# Altium schematic symbol library L.SchLib: 15 symbols
Pins are listed as number, name and electrical type; pins without a type are passive.

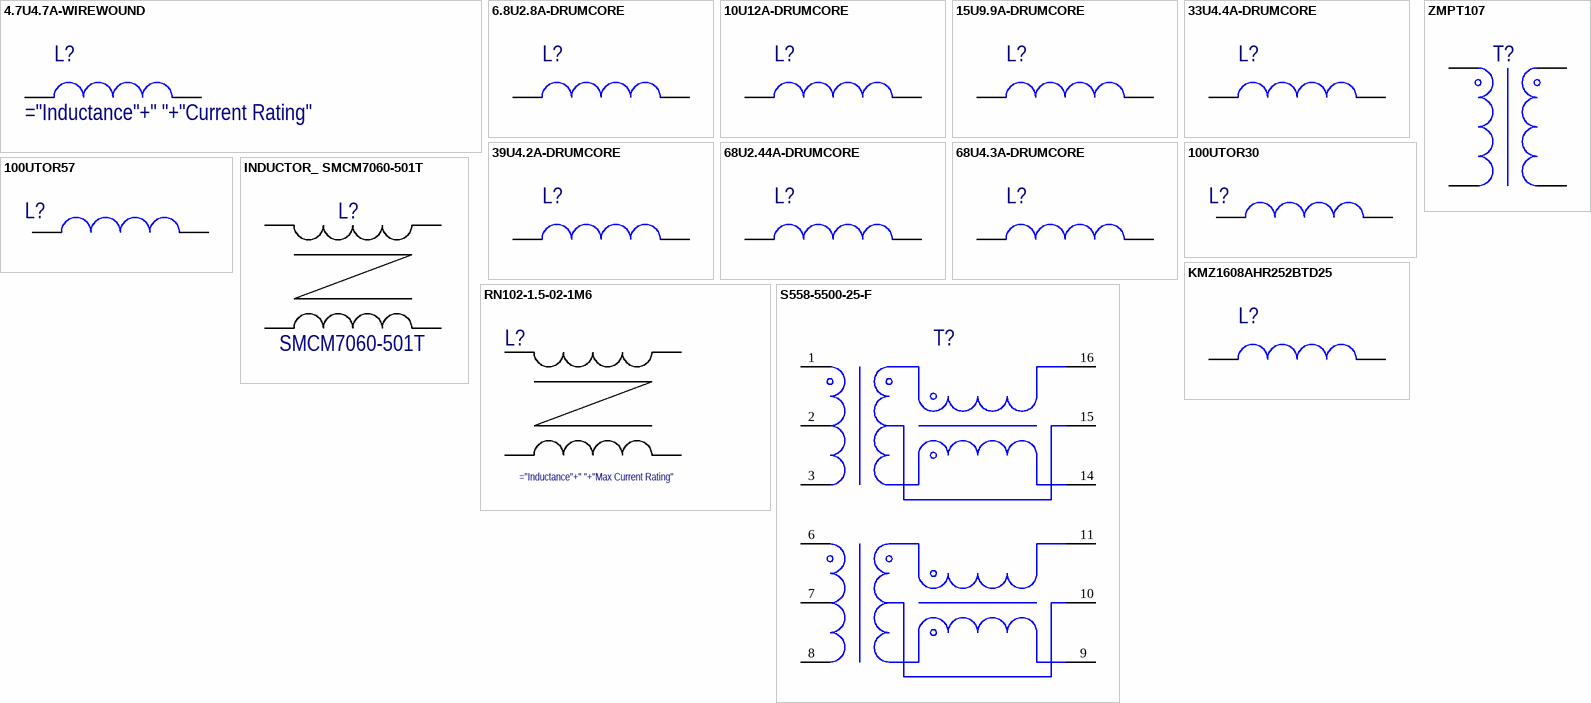
[diagram p0: symbols 4.7U4.7A-WIREWOUND to ZMPT107]

## 4.7U4.7A-WIREWOUND
designator L?
FIXED IND 4.7UH 4.5A 19 MOHM SMD; Manufacturer: Bourns Inc.; Manufacturer Part Number: SDR1005-4R7ML; DC Resistance (DCR): 19mR; Inductance Tolerance: 20%; SMD: 1; Current Rating: 4.5A; DC Current: 4.5A; Height: 5mm; Inductance: 4.7uH; Max DC Current: 4.5A; Max Operating Temperature: 125°C; Min Operating Temperature: -40°C
footprint INDP_SDR1005-4R7ML (Precision Wire Wound Inductor, 2-Leads, Body 12,70x10,00mm, IPC Low Density)
pins: 1, 2

## 6.8U2.8A-DRUMCORE
designator L?  (value not drawn)
FIXED IND 6.8UH 2.8A 47.3 MOHM; Manufacturer: Bourns; Manufacturer Part Number: SRN6045-6R8Y; SMD: 1
footprint INDP_SRN6045-6R8Y (Precision Wire Wound Inductor, 2-Leads, Body 6,00x6,00mm, IPC Low Density)
pins: 1, 2

## 10U12A-DRUMCORE
designator L?  (value not drawn)
FIXED IND 10UH 12A 105 MOHM; Manufacturer: Coilcraft; Manufacturer Part Number: MSS1210-103ME; SMD: 1
footprint INDP120120X102M (Precision Wire Wound Inductor, 2-Leads, Body 12,00x12,00mm, IPC Low Density)
pins: 1, 2

## 15U9.9A-DRUMCORE
designator L?  (value not drawn)
FIXED IND 15UH 9.9A 105 MOHM; Manufacturer: Coilcraft; Manufacturer Part Number: MSS1210-153ME; SMD: 1
footprint INDP120120X102M (Precision Wire Wound Inductor, 2-Leads, Body 12,00x12,00mm, IPC Low Density)
pins: 1, 2

## 33U4.4A-DRUMCORE
designator L?  (value not drawn)
FIXED IND 33UH 4.2A 52 MOHM; Manufacturer: Bourns; Manufacturer Part Number: SRR1210-330M; SMD: 1
footprint INDP120120X102M (Precision Wire Wound Inductor, 2-Leads, Body 12,00x12,00mm, IPC Low Density)
pins: 1, 2

## 39U4.2A-DRUMCORE
designator L?  (value not drawn)
FIXED IND 39UH 4.2A 66 MOHM; Manufacturer: Bourns; Manufacturer Part Number: SRR1210-390M; SMD: 1
footprint INDP120120X102M (Precision Wire Wound Inductor, 2-Leads, Body 12,00x12,00mm, IPC Low Density)
pins: 1, 2

## 68U2.44A-DRUMCORE
designator L?  (value not drawn)
FIXED IND 68UH 2.44A 105 MOHM; Manufacturer: Eaton - Electronics Division; Manufacturer Part Number: DR127-680-R; SMD: 1
footprint INDP120120X102M (Precision Wire Wound Inductor, 2-Leads, Body 12,00x12,00mm, IPC Low Density)
pins: 1, 2

## 68U4.3A-DRUMCORE
designator L?  (value not drawn)
FIXED IND 68UH 4.3A 84 MOHM; Manufacturer: Coilcraft; Manufacturer Part Number: MSS1210-683MEB; SMD: 1
footprint INDP120120X102M (Precision Wire Wound Inductor, 2-Leads, Body 12,00x12,00mm, IPC Low Density)
pins: 1, 2

## 100UTOR30
designator L?  (value not drawn)
INDUCTOR, TOROID, 100UH
footprint INDTOR30
pins: 1, 2

## 100UTOR57
designator L?  (value not drawn)
INDUCTOR, TOROID, 100UH; Supplier 1: Digi-Key; Supplier Part Number 1: 513-1720-ND
footprint INDTOR57
pins: 1, 2

## INDUCTOR_ SMCM7060-501T
designator L?, comment SMCM7060-501T
COMMON MODE CHOCKE SMD 500 7x6mm 450Ohm@100MHz, 5A Rated current; Manufacturer: SXN(Shun Xiang Nuo Elec); TH: 1; Impedance @ Frequency: 450Ω @ 100MHz; DC Resistance (DCR) (Max): 10mOhm; Voltage Rating - DC: 125V; Withstanding Voltage: 500V, 1Mins; Manufacturer Part Number: SMCM7060-501T; Current Rating (Max): 5A; Operating Temperature: -40℃ ~ +125℃
footprint INDUCTOR_SMCM7060-501T (SMD 7x6mm)
pins: 1, 2, 3, 4

## KMZ1608AHR252BTD25
designator L?  (value not drawn)
FERRITE BEAD 2.5 KOHM 0603 1LN; Manufacturer: TDK Corporation; Manufacturer Part Number: KMZ1608AHR252BTD25; SMD: 1
footprint RESC1608X06N/0603 (Chip Resistor, 2-Leads, Body 1,60x0,82mm, IPC Medium Density)
pins: 1, 2

## RN102-1.5-02-1M6
designator L?
CMC 1.6MH 1.5A 2LN TH; Manufacturer: Schaffner; Manufacturer Part Number: RN102-1.5-02-1M6; Number of Lines: 2; DC Resistance (DCR): 94mR; Voltage Rating (AC): 300V; Approvals: VDE,UR,ENEC; Supplier 1: Digi-Key; RoHS: Yes; Category: Common Mode Chokes; Stock 1: 1138; Pricing 1: 1=1,76000, 10=1,62000, 25=1,48480, 50=1,26900, 100=1,13400, 250=0,97200, 500=0,91800, 1000=0,83700, 2500=0,81000 (USD); Mount: Through Hole; Min Operating Temperature: -40°C; Max Operating Temperature: 100°C; Packaging: Tray; Max Current Rating: 1.5A; Width: 0.551inch; Height: 0.366inch; RoHS Compliant: Yes; ComponentLink1URL: https://www.schaffner.com/products/download/product/datasheet/rn-series-common-mode-chokes-new/?src-supplier=Digi-Key; ComponentLink1Description: https://www.schaffner.com/products/download/product/datasheet/rn-series-common-mode-chokes-new/?src-supplier=Digi-Key; ComponentLink2URL: http://www.farnell.com/datasheets/2189017.pdf?src-supplier=Newark; ComponentLink2Description: http://www.farnell.com/datasheets/2189017.pdf?src-supplier=Newark; Supplier Part Number 1: 817-2085-ND
footprint RN102 (Common mode chock 14x14 mm 9.3mm)
pins: 1, 2, 3, 4

## S558-5500-25-F
designator T?
MODULE XFRMR LAN 10/100 POE SMD; Manufacturer: Bel Fuse Inc.; Manufacturer Part Number: S558-5500-25-F; SMD: 1
footprint SOP127P920X571-16M (SOP, 16-Leads, Body 12,32x7,24mm, Pitch 1,27mm, IPC Low Density)
pins: 1 TD+, 2 TCT, 3 TD-, 6 RD+, 7 RCT, 8 RD-, 9 RX-, 10 RXCT, 11 RX+, 14 TX-, 15 TXCT, 16 TX+

## ZMPT107
designator T?  (value not drawn)
CURRENT TRANSFORMER 1:1 2mA; Manufacturer: Your Cee; Manufacturer Part Number: ZMPT107; TH: 1
footprint XFMR_ZMPT107
pins: 1, 2, 3, 4